# Altium schematic symbol library traveling.SchLib: 1 symbol
Pins are listed as number, name and electrical type; pins without a type are passive.

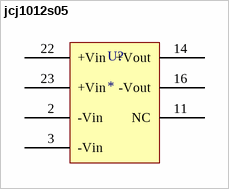
[diagram p0: symbol jcj1012s05]

## jcj1012s05
designator U?
footprint jcj1012s05
pins: 2 -Vin, 3 -Vin, 11 NC, 14 +Vout, 16 -Vout, 22 +Vin, 23 +Vin